# Altium footprint library 24L01 Series.PcbLib: 3 footprints
Each footprint in its own frame and in the unit in brackets; x right, y up, seen from the top. Pads: shape width x height; smd on the part's side, far side on the other; paste and mask are expansions set on the pad; w line width, h text height; cw(c..) or ccw(c..) is an arc to the next point about the centre after c.
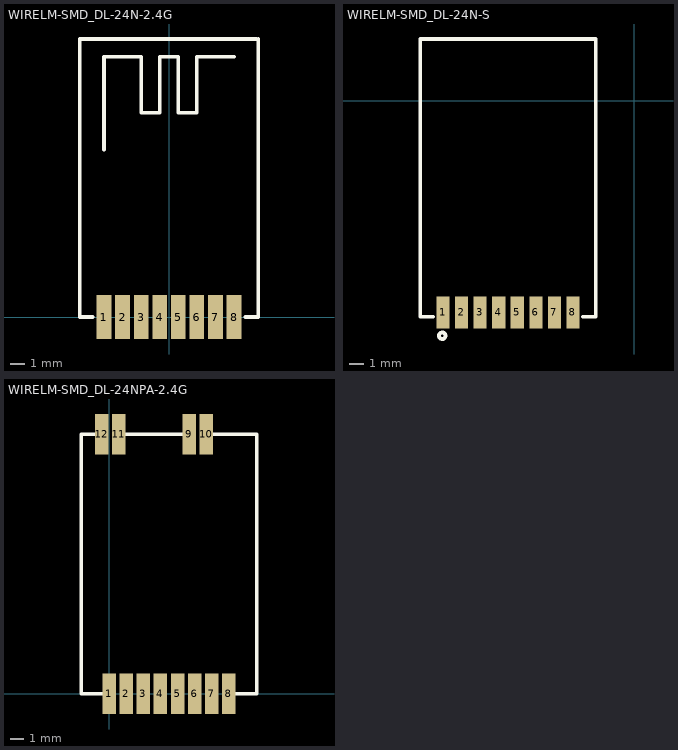
[diagram p0: the footprints below, top view; thin cyan lines are the x and y axes]

## WIRELM-SMD_DL-24N-2.4G [mm]
pads (8):
  rect 1x3 smd: 1(-4.445,0) 2(-3.175,0) 3(-1.905,0) 4(-0.635,0) 5(0.635,0) 6(1.905,0) 7(3.175,0) 8(4.445,0)
Top Overlay:
  lines w0.254: -6.096,19 -6.096,0 -5.207,0 ; -6.045,19 5.955,19 ; -4.445,11.43 -4.445,17.78 -1.905,17.78 -1.905,13.97 -0.635,13.97 -0.635,17.78 0.635,17.78 0.635,13.97 1.905,13.97 1.905,17.78 4.445,17.78 ; 5.207,0 6.096,0 6.096,19

## WIRELM-SMD_DL-24N-S [mm] "DL-24N-S DL-24N-I"
pads (8):
  rect 0.9x2.2 smd: 1(-13.081,-14.478) 2(-11.811,-14.478) 3(-10.541,-14.478) 4(-9.271,-14.478) 5(-8.001,-14.478) 6(-6.731,-14.478) 7(-5.461,-14.478) 8(-4.191,-14.478)
Top Overlay:
  circle w0.254: c-13.136,-16.078 r0.224
  lines w0.254: -13.762,-14.778 -14.636,-14.778 -14.636,4.222 -2.636,4.222 -2.636,-14.778 -3.51,-14.778

## WIRELM-SMD_DL-24NPA-2.4G [mm]
pads (12):
  rect 1x3 smd: 1(0,0) 2(1.27,0) 3(2.54,0) 4(3.81,0) 5(5.08,0) 6(6.35,0) 7(7.62,0) 8(8.89,0) 9(5.94,19.25) 10(7.21,19.25) 11(0.72,19.25) 12(-0.55,19.25)
Top Overlay:
  lines w0.254: -0.55,19.25 -2.05,19.25 -2.05,0 0,0 ; 0.789,19.25 6.019,19.25 ; 7.21,19.25 10.94,19.25 10.94,0 8.89,0